# Altium footprint library APC.PcbLib: 68 footprints (part 1 of 5)
Each footprint in its own frame and in the unit in brackets; x right, y up, seen from the top. Pads: shape width x height; smd on the part's side, far side on the other; paste and mask are expansions set on the pad; w line width, h text height; cw(c..) or ccw(c..) is an arc to the next point about the centre after c.
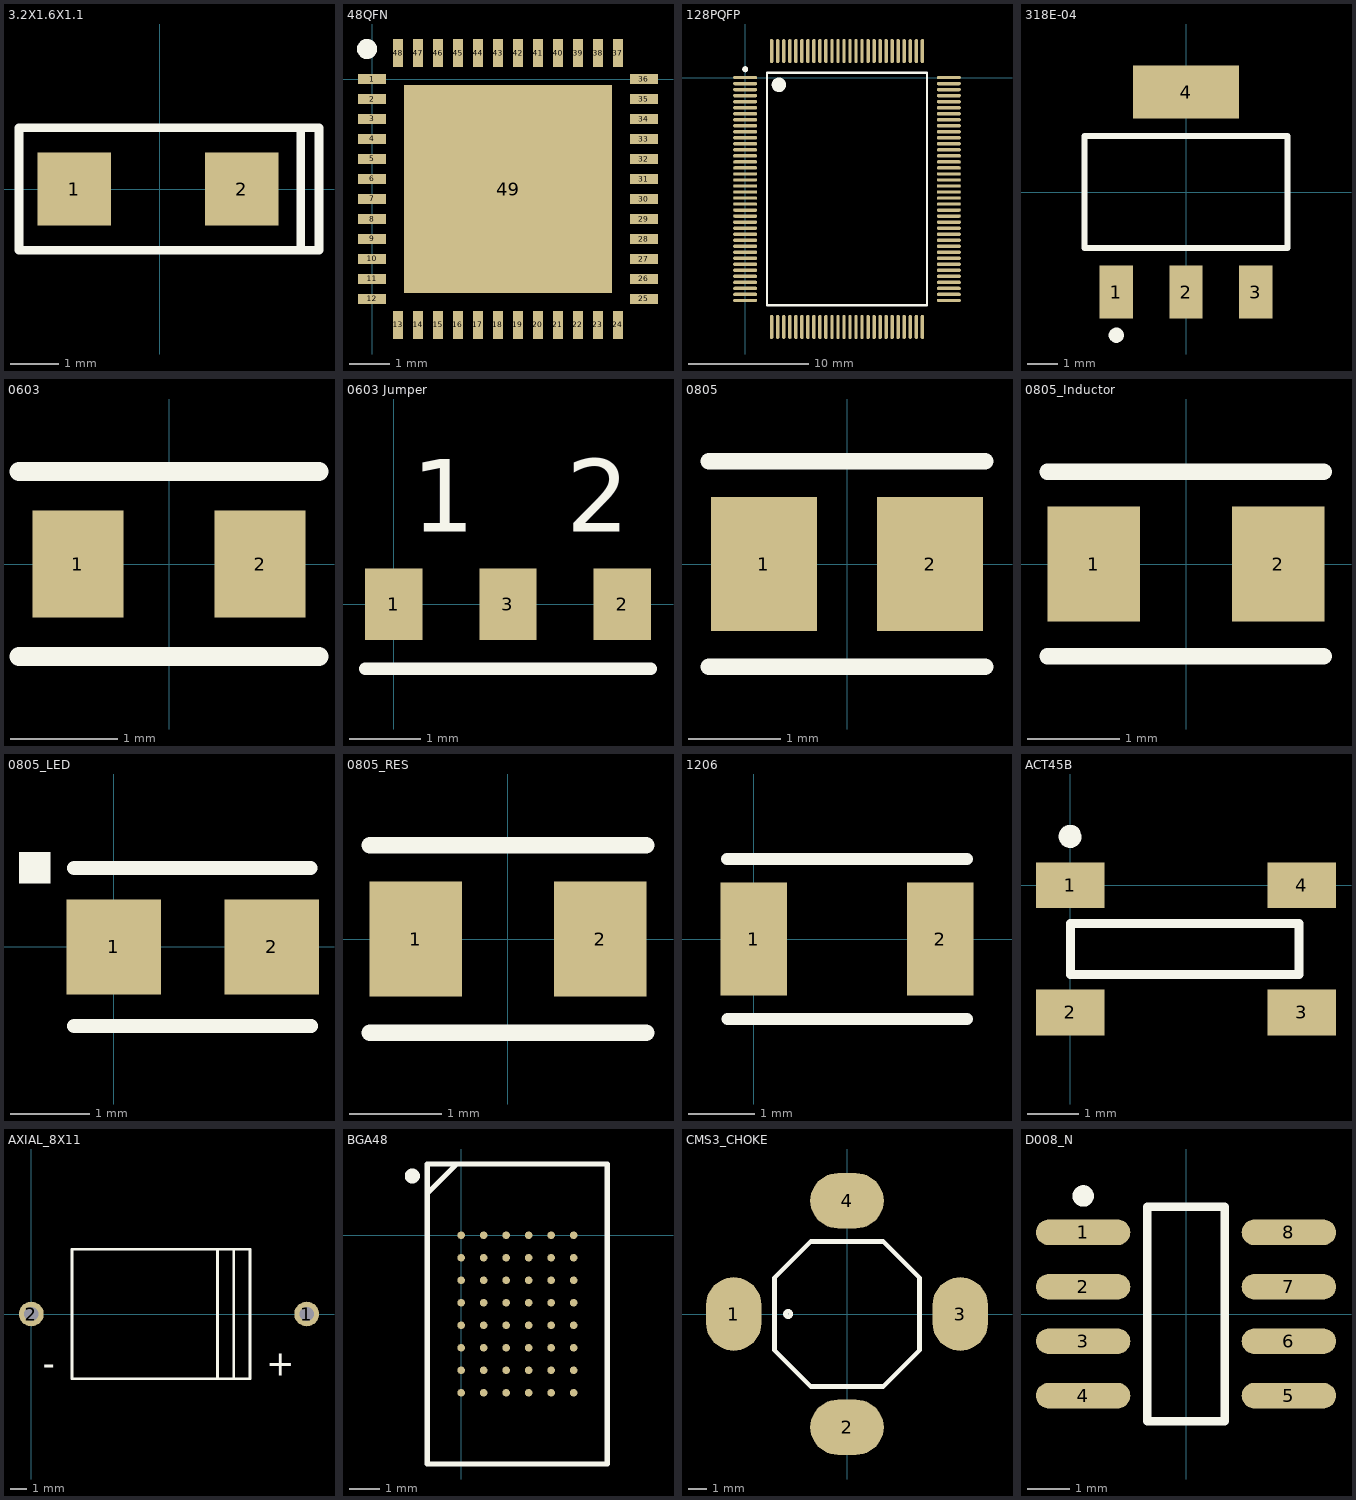
[diagram p0: the footprints below, top view; thin cyan lines are the x and y axes]

## 3.2X1.6X1.1 [mil] "SMT LED; 2 Flat Leads"
height 47.24
pads (2):
  rect 60x60 smd: 1(-70,0) 2(67,0)
Top Overlay:
  lines w7: 115,-50 115,50 ; -115,-50 -115,50 130,50 130,-50 -115,-50

## 48QFN [mm] "LTC2203 48-pin PlasticQFN"
height 0.75
pads (49):
  rect 0.7x0.25 smd mask+0.05: 1(0,0) 2(0,-0.5) 3(0,-1) 4(0,-1.5) 5(0,-2) 6(0,-2.5) 7(0,-3) 8(0,-3.5) 9(0,-4) 10(0,-4.5) 11(0,-5) 12(0,-5.5) 25(6.8,-5.5) 26(6.8,-5) 27(6.8,-4.5) 28(6.8,-4) 29(6.8,-3.5) 30(6.8,-3) 31(6.8,-2.5) 32(6.8,-2) 33(6.8,-1.5) 34(6.8,-1) 35(6.8,-0.5) 36(6.8,0)
  rect 0.25x0.7 smd mask+0.05: 13(0.65,-6.15) 14(1.15,-6.15) 15(1.65,-6.15) 16(2.15,-6.15) 17(2.65,-6.15) 18(3.15,-6.15) 19(3.65,-6.15) 20(4.15,-6.15) 21(4.65,-6.15) 22(5.15,-6.15) 23(5.65,-6.15) 24(6.15,-6.15) 37(6.15,0.65) 38(5.65,0.65) 39(5.15,0.65) 40(4.65,0.65) 41(4.15,0.65) 42(3.65,0.65) 43(3.15,0.65) 44(2.65,0.65) 45(2.15,0.65) 46(1.65,0.65) 47(1.15,0.65) 48(0.65,0.65)
  rect 5.2x5.2 smd mask+0.05: 49(3.4,-2.75)
Top Overlay:
  circle w0.254: c-0.125,0.75 r0.125
  lines w0.178: -0.05,0.725 -0.05,0.725
3D body: height 0.75, standoff 0, extent -0.1,-6.25 6.9,0.75

## 128PQFP [mm] "128-pin PQFP"
height 3.4
pads (128):
  oval 2x0.28 smd mask+0.051: 1(0,0) 2(0,-0.5) 3(0,-1) 4(0,-1.5) 5(0,-2) 6(0,-2.5) 7(0,-3) 8(0,-3.5) 9(0,-4) 10(0,-4.5) 11(0,-5) 12(0,-5.5) 13(0,-6) 14(0,-6.5) 15(0,-7) 16(0,-7.5) 17(0,-8) 18(0,-8.5) 19(0,-9) 20(0,-9.5) 21(0,-10) 22(0,-10.5) 23(0,-11) 24(0,-11.5) 25(0,-12) 26(0,-12.5) 27(0,-13) 28(0,-13.5) 29(0,-14) 30(0,-14.5) 31(0,-15) 32(0,-15.5) 33(0,-16) 34(0,-16.5) 35(0,-17) 36(0,-17.5) 37(0,-18) 38(0,-18.5) 65(16.9,-18.5) 66(16.9,-18) 67(16.9,-17.5) 68(16.9,-17) 69(16.9,-16.5) 70(16.9,-16) 71(16.9,-15.5) 72(16.9,-15) 73(16.9,-14.5) 74(16.9,-14) 75(16.9,-13.5) 76(16.9,-13) 77(16.9,-12.5) 78(16.9,-12) 79(16.9,-11.5) 80(16.9,-11) 81(16.9,-10.5) 82(16.9,-10) 83(16.9,-9.5) 84(16.9,-9) 85(16.9,-8.5) 86(16.9,-8) 87(16.9,-7.5) 88(16.9,-7) 89(16.9,-6.5) 90(16.9,-6) 91(16.9,-5.5) 92(16.9,-5) 93(16.9,-4.5) 94(16.9,-4) 95(16.9,-3.5) 96(16.9,-3) 97(16.9,-2.5) 98(16.9,-2) 99(16.9,-1.5) 100(16.9,-1) 101(16.9,-0.5) 102(16.9,0)
  oval 0.28x2 smd mask+0.051: 39(2.2,-20.7) 40(2.7,-20.7) 41(3.2,-20.7) 42(3.7,-20.7) 43(4.2,-20.7) 44(4.7,-20.7) 45(5.2,-20.7) 46(5.7,-20.7) 47(6.2,-20.7) 48(6.7,-20.7) 49(7.2,-20.7) 50(7.7,-20.7) 51(8.2,-20.7) 52(8.7,-20.7) 53(9.2,-20.7) 54(9.7,-20.7) 55(10.2,-20.7) 56(10.7,-20.7) 57(11.2,-20.7) 58(11.7,-20.7) 59(12.2,-20.7) 60(12.7,-20.7) 61(13.2,-20.7) 62(13.7,-20.7) 63(14.2,-20.7) 64(14.7,-20.7) 103(14.7,2.2) 104(14.2,2.2) 105(13.7,2.2) 106(13.2,2.2) 107(12.7,2.2) 108(12.2,2.2) 109(11.7,2.2) 110(11.2,2.2) 111(10.7,2.2) 112(10.2,2.2) 113(9.7,2.2) 114(9.2,2.2) 115(8.7,2.2) 116(8.2,2.2) 117(7.7,2.2) 118(7.2,2.2) 119(6.7,2.2) 120(6.2,2.2) 121(5.7,2.2) 122(5.2,2.2) 123(4.7,2.2) 124(4.2,2.2) 125(3.7,2.2) 126(3.2,2.2) 127(2.7,2.2) 128(2.2,2.2)
Top Overlay:
  circle w0.25: c0,0.69 r0.125
  circle w0.6: c2.8,-0.6 r0.3
  lines w0.178: 1.8,-18.9 1.8,0.4 15.1,0.4 15.1,-18.9 1.8,-18.9
3D body: height 3.4, standoff 0.25, extent 1.45,-19.25 15.45,0.75

## 318E-04 [mm] "SOT-223/SC-73; 4 Leads; Body 6.7 x 7.3 mm, inc. leads (LxW max)"
height 1.75
pads (4):
  rect 1.1x1.75 smd: 1(-2.3,-3.3) 2(0,-3.3) 3(2.3,-3.3)
  rect 3.5x1.75 smd: 4(0,3.3)
Top Overlay:
  circle w0.25: c-2.3,-4.725 r0.125
  lines w0.2: -3.35,-1.85 -3.35,1.85 3.35,1.85 3.35,-1.85 -3.35,-1.85
3D body: height 1.78, standoff 0, extent -3.429,-1.905 3.429,1.905

## 0603 [mm] "Chip Capacitor; Body 1.6 x 0.8 mm (LxW typ)"
height 0.87
pads (2):
  rect 0.85x1 smd: 1(-0.85,0) 2(0.85,0)
Top Overlay:
  lines w0.178: -1.4,-0.864 1.4,-0.864 ; -1.4,0.864 1.4,0.864
3D body: height 0.87, standoff 0, extent -0.939,-0.508 0.839,0.508

## 0603 Jumper [mm] "3-pin Jumper for 0603, 0 Ohm Resistor"
height 0.87
pads (3):
  rect 0.8x1 smd: 1(0,0) 2(3.2,0) 3(1.6,0)
Top Overlay:
  lines w0.178: -0.4,-0.9 3.6,-0.9
  text "1" at 0.254,1.016 h1.02
  text "2" at 2.413,1.016 h1.02
3D body: height 0.87, standoff 0, extent -0.089,-0.508 3.3,0.508

## 0805 [mm] "Chip Capacitor; Body 2.0x1.25mm"
height 1
pads (2):
  rect 1.15x1.45 smd: 1(-0.9,0) 2(0.9,0)
Top Overlay:
  lines w0.178: -1.497,-1.114 1.497,-1.114 ; -1.497,1.114 1.497,1.114
3D body: height 1.02, standoff 0, extent -1.143,-0.762 1.143,0.762

## 0805_Inductor [mm] "SMD Inductor 0805"
height 1
pads (2):
  rect 1x1.25 smd: 1(-1,0) 2(1,0)
Top Overlay:
  lines w0.178: -1.5,-1 1.494,-1 ; -1.5,1 1.494,1
3D body: height 1, standoff 0, extent -1.143,-0.762 1.143,0.762

## 0805_LED [mm] "SMD LED 0805"
height 1
pads (2):
  rect 1.2x1.2 smd: 1(0,0) 2(2,0)
Top Overlay:
  rectangle: -1.2,0.8 -0.8,1.2
  lines w0.178: -0.5,-1 2.5,-1 ; -0.5,1 2.494,1
3D body: height 1.1, standoff 0, extent 0,-0.6 2,0.6

## 0805_RES [mm] "Panasonic ERJ Chip Resistor"
height 1
pads (2):
  rect 1x1.25 smd: 1(-1,0) 2(1,0)
Top Overlay:
  lines w0.178: -1.497,-1.014 1.497,-1.014 ; -1.497,1.014 1.497,1.014
3D body: height 0.6, standoff 0, extent -1,-0.6 1,0.6

## 1206 [mm] "Chip Capacitor; Body 3.2x 1.6 mm (LxW typ)"
height 0.6
pads (2):
  rect 1x1.7 smd: 1(0,0) 2(2.8,0)
Top Overlay:
  lines w0.178: -0.4,1.2 3.2,1.2 ; -0.394,-1.2 3.2,-1.2
3D body: height 0.64, standoff 0, extent -0.254,-0.889 3.048,0.889

## ACT45B [mm] "CAN Bus Filter"
height 2.794
pads (4):
  rect 1.35x0.9 smd: 1(0,0) 2(0,-2.5) 3(4.55,-2.5) 4(4.55,0)
Top Overlay:
  lines w0.178: 0,-1.75 0,-0.75 4.5,-0.75 4.5,-1.75 0,-1.75
  lines w0.254: 0.075,1.025 ccw(c-0.003,0.963) 0.097,0.963
3D body: height 2.79, standoff 0, extent -0.254,-2.921 4.826,0.381

## AXIAL_8X11 [mil] "Vishay High Temp Tantalum"
height 334.65
pads (2):
  round 60 hole 35: 1(669.29,0) 2(0,0)
Top Overlay:
  lines w7: 452.76,-157.48 452.76,157.48 ; 492.13,-157.48 492.13,157.48 ; 98.43,-157.48 98.43,157.48 531.5,157.48 531.5,-157.48 98.43,-157.48
  text "-" at 27.56,-149.61 h60
  text "+" at 570.87,-149.61 h60
3D body: height 334.65, standoff 0, extent 98.43,-157.48 531.5,157.48

## BGA48 [mm] "48-Ball Ball Grid Array 0.75 mm Pitch (Cypress #51-85128)"
height 1.2
pads (48):
  round 0.25 smd: A1(0,0) A2(0.75,0) A3(1.5,0) A4(2.25,0) A5(3,0) A6(3.75,0) B1(0,-0.75) B2(0.75,-0.75) B3(1.5,-0.75) B4(2.25,-0.75) B5(3,-0.75) B6(3.75,-0.75) C1(0,-1.5) C2(0.75,-1.5) C3(1.5,-1.5) C4(2.25,-1.5) C5(3,-1.5) C6(3.75,-1.5) D1(0,-2.25) D2(0.75,-2.25) D3(1.5,-2.25) D4(2.25,-2.25) D5(3,-2.25) D6(3.75,-2.25) E1(0,-3) E2(0.75,-3) E3(1.5,-3) E4(2.25,-3) E5(3,-3) E6(3.75,-3) F1(0,-3.75) F2(0.75,-3.75) F3(1.5,-3.75) F4(2.25,-3.75) F5(3,-3.75) F6(3.75,-3.75) G1(0,-4.5) G2(0.75,-4.5) G3(1.5,-4.5) G4(2.25,-4.5) G5(3,-4.5) G6(3.75,-4.5) H1(0,-5.25) H2(0.75,-5.25) H3(1.5,-5.25) H4(2.25,-5.25) H5(3,-5.25) H6(3.75,-5.25)
Top Overlay:
  circle w0.25: c-1.625,1.975 r0.125
  lines w0.178: -1.112,1.412 -0.163,2.362 ; -1.125,-7.625 4.875,-7.625 4.875,2.375 -1.125,2.375 -1.125,-7.625
3D body: height 1.2, standoff 0, extent -1.125,-7.625 4.875,2.375

## CMS3_CHOKE [mm] "High Temperature Common Mode Choke"
height 5.994
pads (4):
  oval 3.05x4.06 smd: 1(-6.25,0) 3(6.25,0)
  oval 4.06x3.05 smd: 2(0,-6.25) 4(0,6.25)
Top Overlay:
  circle w0.254: c-3.25,0 r0.15
  lines w0.254: -2,-4 2,-4 4,-2 4,2 2,4 -2,4 -4,2 -4,-2 -2,-4 ; -2,-4 -2,-4
3D body: height 5.99, standoff 0, extent -4.064,-4.064 4.064,4.064

## D008_N [mm] "SOIC, 8-Leads, Body 4.9x3.9mm, Pitch 1.27mm, IPC Medium Density"
height 1.75
pads (8):
  oval 2.2x0.6 smd: 1(-2.4,1.905) 2(-2.4,0.635) 3(-2.4,-0.635) 4(-2.4,-1.905) 5(2.4,-1.905) 6(2.4,-0.635) 7(2.4,0.635) 8(2.4,1.905)
Top Overlay:
  circle w0.25: c-2.4,2.755 r0.125
  lines w0.2: -0.9,-2.5 0.9,-2.5 0.9,2.5 -0.9,2.5 -0.9,-2.5
3D body: height 1.75, standoff 0, extent -1.95,-2.45 1.95,2.45